# EAGLE library part EM6K34T2CR (library transistor-fet)
Rohm EM6K34 - Dual 0.9V Drive NMOS Transistors
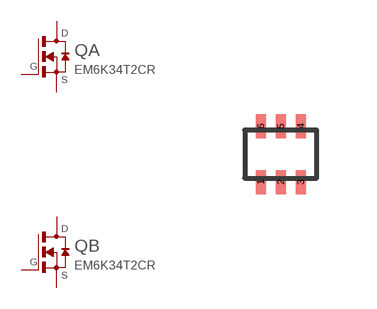
[diagram p10: symbol with the pads of SOT563; footprint SOT563]

Designator prefix Q; gates A=EMOS-ND-1 B=EMOS-ND-1

## EM6K34T2CR (DIGIKEY: EM6K34T2CRCT-ND; ID: 200mA; P1I: o; VOLT: 50V)  [SOT563]
1  A:S  pas
2  A:G  pas
3  B:D  pas
4  B:S  pas
5  B:G  pas
6  A:D  pas

## Footprint SOT563 (pad centres in mm)
smd 0.25 x 0.6: 1 -0.5,-0.7; 2 0,-0.7; 3 0.5,-0.7; 4 0.5,0.7; 5 0,0.7; 6 -0.5,0.7